# EAGLE library part BOB_LM3S608_CIRCULAR (library CEDTv78)
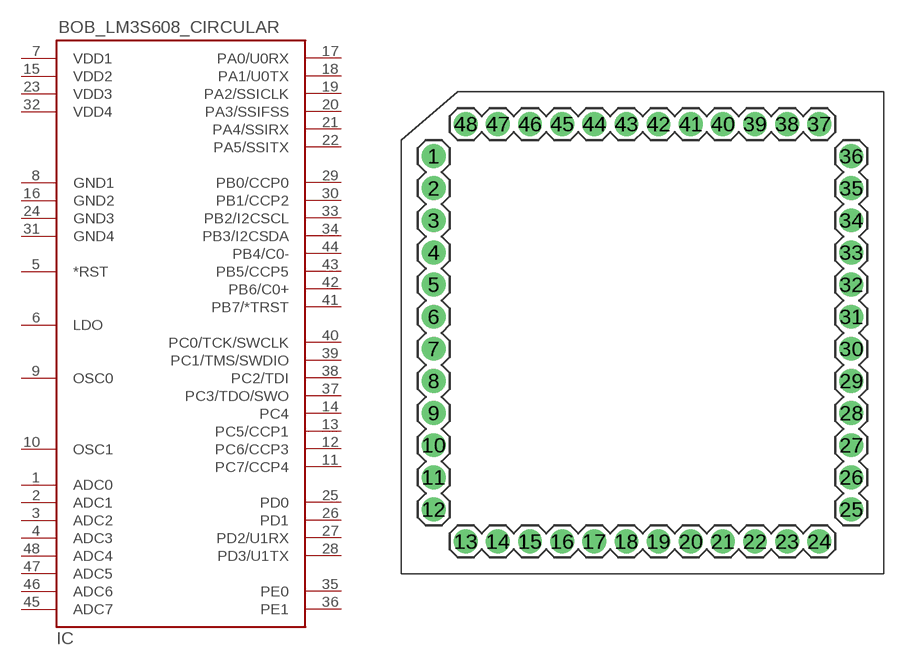
[diagram p40: symbol with the pads of BOB_LQFP48_CIRCULAR; footprint BOB_LQFP48_CIRCULAR]

Designator prefix IC

## BOB_LM3S608_CIRCULAR  [BOB_LQFP48_CIRCULAR]
1  ADC0  pas
2  ADC1  pas
3  ADC2  pas
4  ADC3  pas
5  *RST  pas
6  LDO  pas
7  VDD1  pas
8  GND1  pas
9  OSC0  pas
10  OSC1  pas
11  PC7/CCP4  pas
12  PC6/CCP3  pas
13  PC5/CCP1  pas
14  PC4  pas
15  VDD2  pas
16  GND2  pas
17  PA0/U0RX  pas
18  PA1/U0TX  pas
19  PA2/SSICLK  pas
20  PA3/SSIFSS  pas
21  PA4/SSIRX  pas
22  PA5/SSITX  pas
23  VDD3  pas
24  GND3  pas
25  PD0  pas
26  PD1  pas
27  PD2/U1RX  pas
28  PD3/U1TX  pas
29  PB0/CCP0  pas
30  PB1/CCP2  pas
31  GND4  pas
32  VDD4  pas
33  PB2/I2CSCL  pas
34  PB3/I2CSDA  pas
35  PE0  pas
36  PE1  pas
37  PC3/TDO/SWO  pas
38  PC2/TDI  pas
39  PC1/TMS/SWDIO  pas
40  PC0/TCK/SWCLK  pas
41  PB7/*TRST  pas
42  PB6/C0+  pas
43  PB5/CCP5  pas
44  PB4/C0-  pas
45  ADC7  pas
46  ADC6  pas
47  ADC5  pas
48  ADC4  pas

## Footprint BOB_LQFP48_CIRCULAR (pad centres in mm)
48-pin Low Profile Quad Flat Pack
drill 1.016 pad 1.88: 1 -16.51,12.7; 2 -16.51,10.16; 3 -16.51,7.62; 4 -16.51,5.08; 5 -16.51,2.54; 6 -16.51,0; 7 -16.51,-2.54; 8 -16.51,-5.08; 9 -16.51,-7.62; 10 -16.51,-10.16; 11 -16.51,-12.7; 12 -16.51,-15.24; 13 -13.97,-17.78; 14 -11.43,-17.78; 15 -8.89,-17.78; 16 -6.35,-17.78; 17 -3.81,-17.78; 18 -1.27,-17.78; 19 1.27,-17.78; 20 3.81,-17.78; 21 6.35,-17.78; 22 8.89,-17.78; 23 11.43,-17.78; 24 13.97,-17.78; 25 16.51,-15.24; 26 16.51,-12.7; 27 16.51,-10.16; 28 16.51,-7.62; 29 16.51,-5.08; 30 16.51,-2.54; 31 16.51,0; 32 16.51,2.54; 33 16.51,5.08; 34 16.51,7.62; 35 16.51,10.16; 36 16.51,12.7; 37 13.97,15.24; 38 11.43,15.24; 39 8.89,15.24; 40 6.35,15.24; 41 3.81,15.24; 42 1.27,15.24; 43 -1.27,15.24; 44 -3.81,15.24; 45 -6.35,15.24; 46 -8.89,15.24; 47 -11.43,15.24; 48 -13.97,15.24